# EAGLE library part PIN1X9 (library Connector)
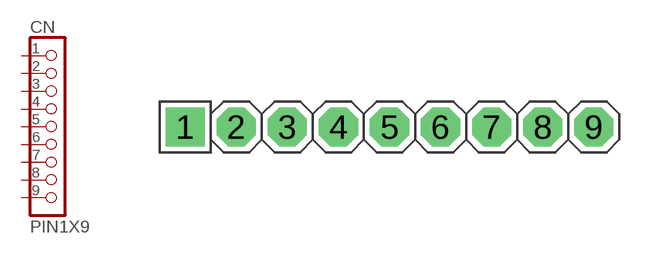
[diagram p23: symbol with the pads of PIN1X9; footprint PIN1X9]

Designator prefix CN

## PIN1X9  [PIN1X9]
1  1  pas
2  2  pas
3  3  pas
4  4  pas
5  5  pas
6  6  pas
7  7  pas
8  8  pas
9  9  pas

## Footprint PIN1X9 (pad centres in mm)
drill 1.3 square: 1 -10.16,0
drill 1.3 octagon: 2 -7.62,0; 3 -5.08,0; 4 -2.54,0; 5 0,0; 6 2.54,0; 7 5.08,0; 8 7.62,0; 9 10.16,0